# EAGLE library part CINCH_CONNECTORS_5810148005 (library Upverter Library)
SE Header Black 48 Circuit
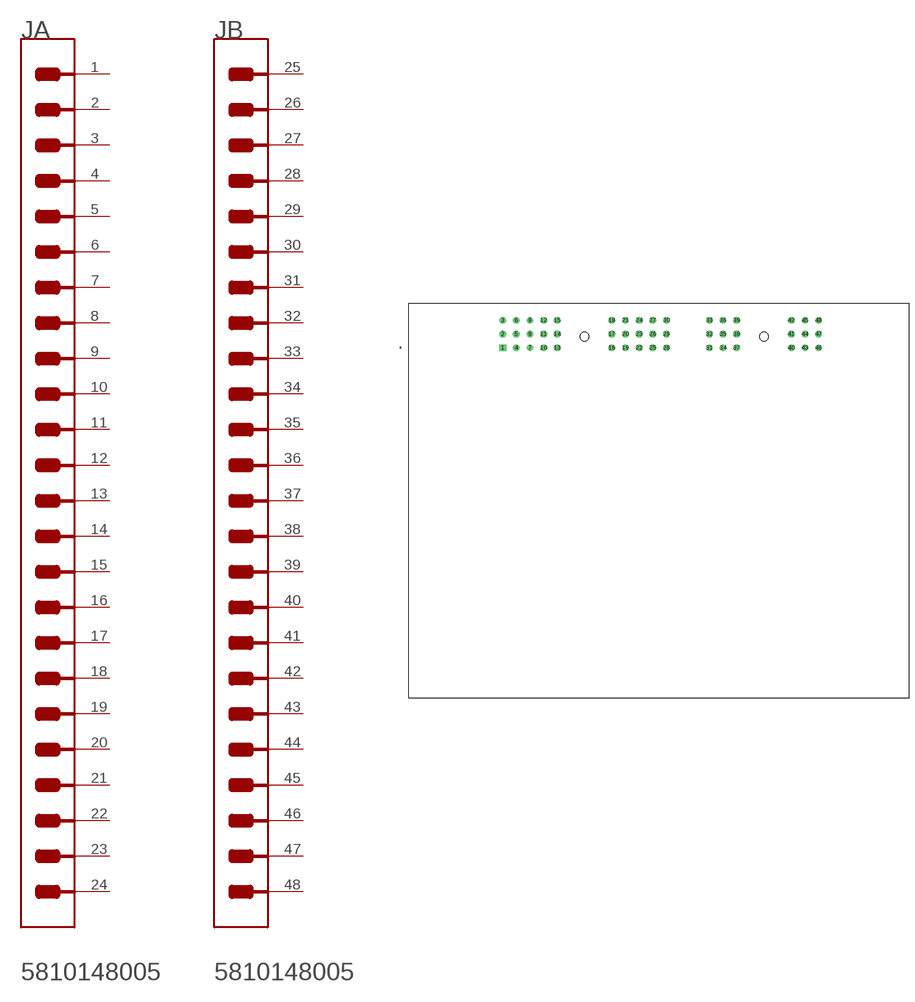
[diagram p0: symbol with the pads of CINCH_CONNECTORS_5810148005_0; footprint CINCH_CONNECTORS_5810148005_0]

Designator prefix J; gates A=CINCH_CONNECTORS_5810148005_0_0 B=CINCH_CONNECTORS_5810148005_0_1

## CINCH_CONNECTORS_5810148005CINCH_CONNECTORS_5810148005_0_0 (MF: Cinch Connectors; MPN: 5810148005; centroid_not_specified: No; conn_gender: Male; conn_orientation: Right Angle; contact_material: Tin,Nickel; current_rating: 10A; datasheet: http://www.farnell.com/datasheets/2571092.pdf?_ga=2.158476154.1101268750.1533439436-347859020.1533439436; device_class_L1: Connectors; device_class_L2: D-Sub Connectors; device_class_L3: unset; digikey_description: CONN MODICE SML HEAD 48POS W/O FERR; digikey_part_number: 116-1126-ND; footprint_url: https://belfuse.com/resources/drawings/cinchconnectivitysolutions/modice/dr-ccs-ice-5810148005-07.pdf; lead_free: yes; mfg_package_ident: 5810148005; mfg_package_ident_date: 0; mfg_package_ident_rev: 0; number_of_contacts: 48; package: HDR48; prefix: J; rohs: yes; temperature_range_high: +85°C; temperature_range_low: -40°C; verification_version: 0.0.0.1)  [CINCH_CONNECTORS_5810148005_0]
1  A:1  pas
2  A:2  pas
3  A:3  pas
4  A:4  pas
5  A:5  pas
6  A:6  pas
7  A:7  pas
8  A:8  pas
9  A:9  pas
10  A:10  pas
11  A:11  pas
12  A:12  pas
13  A:13  pas
14  A:14  pas
15  A:15  pas
16  A:16  pas
17  A:17  pas
18  A:18  pas
19  A:19  pas
20  A:20  pas
21  A:21  pas
22  A:22  pas
23  A:23  pas
24  A:24  pas
25  B:25  pas
26  B:26  pas
27  B:27  pas
28  B:28  pas
29  B:29  pas
30  B:30  pas
31  B:31  pas
32  B:32  pas
33  B:33  pas
34  B:34  pas
35  B:35  pas
36  B:36  pas
37  B:37  pas
38  B:38  pas
39  B:39  pas
40  B:40  pas
41  B:41  pas
42  B:42  pas
43  B:43  pas
44  B:44  pas
45  B:45  pas
46  B:46  pas
47  B:47  pas
48  B:48  pas

## Footprint CINCH_CONNECTORS_5810148005_0 (pad centres in mm)
SE Header Black 48 Circuit
drill 1.27 pad 1.97 square: 1 -45.35,44.34
drill 1.27 pad 1.97 round: 2 -45.35,48.33; 3 -45.35,52.32; 4 -41.39,44.34; 5 -41.39,48.33; 6 -41.39,52.32; 7 -37.43,44.34; 8 -37.43,48.33; 9 -37.43,52.32; 10 -33.47,44.34; 11 -33.47,48.33; 12 -33.47,52.32; 13 -29.51,44.34; 14 -29.51,48.33; 15 -29.51,52.32; 16 -13.67,44.34; 17 -13.67,48.33; 18 -13.67,52.32; 19 -9.71,44.34; 20 -9.71,48.33; 21 -9.71,52.32; 22 -5.75,44.34; 23 -5.75,48.33; 24 -5.75,52.32; 25 -1.79,44.34; 26 -1.79,48.33; 27 -1.79,52.32; 28 2.17,44.34; 29 2.17,48.33; 30 2.17,52.32; 31 14.64,44.34; 32 14.64,48.33; 33 14.64,52.32; 34 18.6,44.34; 35 18.6,48.33; 36 18.6,52.32; 37 22.56,44.34; 38 22.56,48.33; 39 22.56,52.32; 40 38.4,44.34; 41 38.4,48.33; 42 38.4,52.32; 43 42.36,44.34; 44 42.36,48.33; 45 42.36,52.32; 46 46.32,44.34; 47 46.32,48.33; 48 46.32,52.32
hole 2.54 at -21.59,47.62
hole 2.54 at 30.48,47.62